# Altium schematic symbol library LMK212BBJ226MG-T.SchLib: 1 symbol
Pins are listed as number, name and electrical type; pins without a type are passive.

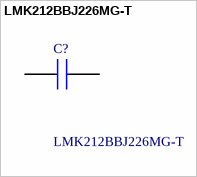
[diagram p0: symbol LMK212BBJ226MG-T]

## LMK212BBJ226MG-T
designator C?
Taiyo Yuden 0805, 2012 M 22uF Ceramic Multilayer Capacitor, 10 V dc, +85C, X5R Dielectric, +/-20% SMD; Geometry.Height: 1.35mm; Mouser Part Number: 963-LMK212BBJ226MG-T; Mouser Price/Stock: https://www.mouser.co.uk/ProductDetail/Taiyo-Yuden/LMK212BBJ226MG-T?qs=Va%252BXcMGJzEt5r7CLFWWrQQ%3D%3D; Manufacturer_Name: TAIYO YUDEN; Manufacturer_Part_Number: LMK212BBJ226MG-T; Datasheet Link: *
footprint CAPC2012X135N
pins: 1, 2